# Altium schematic symbol library Antennas.SchLib: 2 symbols
Pins are listed as number, name and electrical type; pins without a type are passive.

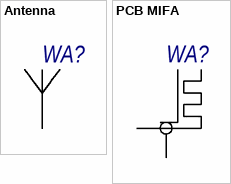
[diagram p0: symbols Antenna to PCB MIFA]

## Antenna
designator WA?  (value not drawn)
pins: 1 SIGN

## PCB MIFA
designator WA?  (value not drawn)
pins: 1, 2